# Altium footprint library GPIB_Connector.PcbLib: 1 footprints
Each footprint in its own frame and in the unit in brackets; x right, y up, seen from the top. Pads: shape width x height; smd on the part's side, far side on the other; paste and mask are expansions set on the pad; w line width, h text height; cw(c..) or ccw(c..) is an arc to the next point about the centre after c.
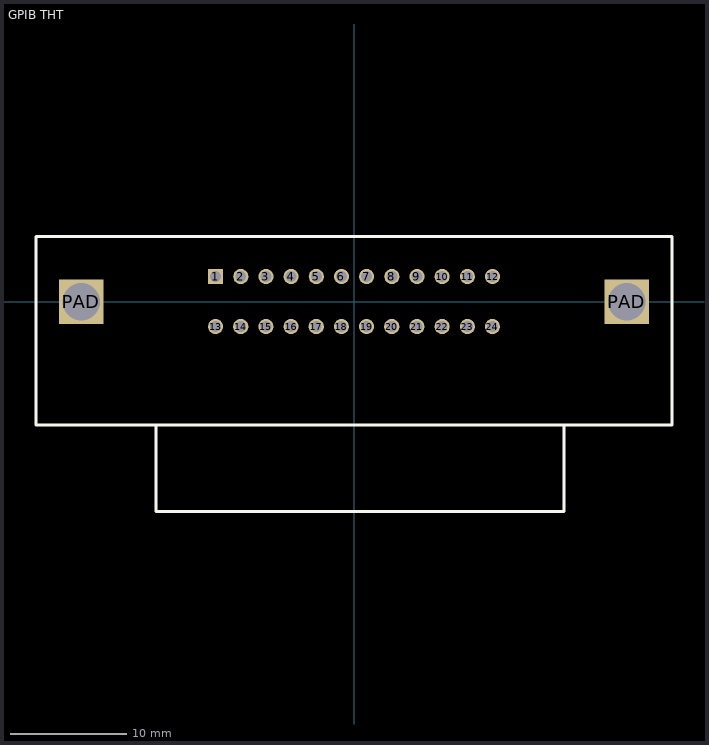
[diagram p0: the footprint, top view; thin cyan lines are the x and y axes]

## GPIB THT [mm] "DXP://VaultExplorer:Navigate_URL?Plugin=Search&VaultGUID=B7D15EC3-160A-466F-A46C-7801FE6295A7&SavedSearchGUID=&GenericFilter=DXP://VaultExplorer:Navigate_URL?VaultGUID=B7D15EC3-160A-466F-A46C-7801FE6295A7&Plugin=Folders&FolderPath=112-024-113r001&Nav_ForceRefresh:=True&UserDefinedBrowseItemsOption_0:=0&UserDefinedBrowseItemsOption_1:=-1&UserDefinedBrows112-024-113r001"
pads (26):
  rect 1.3x1.3 hole 0.94: 1(-11.875,2.159)
  round 1.3 hole 0.94: 2(-9.715,2.159) 3(-7.555,2.159) 4(-5.395,2.159) 5(-3.235,2.159) 6(-1.075,2.159) 7(1.085,2.159) 8(3.245,2.159) 9(5.405,2.159) 10(7.565,2.159) 11(9.725,2.159) 12(11.885,2.159) 13(-11.875,-2.131) 14(-9.716,-2.131) 15(-7.557,-2.131) 16(-5.398,-2.131) 17(-3.239,-2.131) 18(-1.08,-2.131) 19(1.079,-2.131) 20(3.238,-2.131) 21(5.397,-2.131) 22(7.565,-2.131) 23(9.725,-2.131) 24(11.874,-2.131)
  rect 3.81x3.81 hole 3.2: PAD(-23.4,0) PAD(23.4,0)
Top Overlay:
  lines w0.254: -18,-10.592 -17,-10.592 -17,-18 18,-18 18,-10.592 ; -27.3,-10.592 -27.3,5.6 27.3,5.6 27.3,-10.592 -27.3,-10.592